# EAGLE library part 20021221-00006 (library Amphenol)
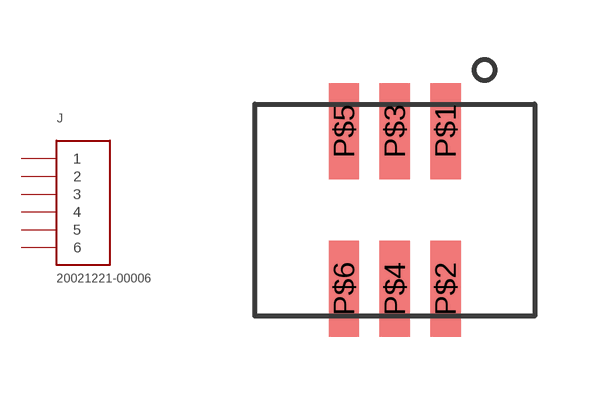
[diagram p0: symbol with the pads of 20021221-00006; footprint 20021221-00006]

Designator prefix J

## 20021221-00006  [20021221-00006]
P$1  1
P$2  2
P$3  3
P$4  4
P$5  5
P$6  6

## Footprint 20021221-00006 (pad centres in mm)
smd 0.76 x 2.4: P$1 1.27,1.97; P$2 1.27,-1.97; P$3 0,1.97; P$4 0,-1.97; P$5 -1.27,1.97; P$6 -1.27,-1.97